# EAGLE library part DRV8825_BOARD (library bike_computer)
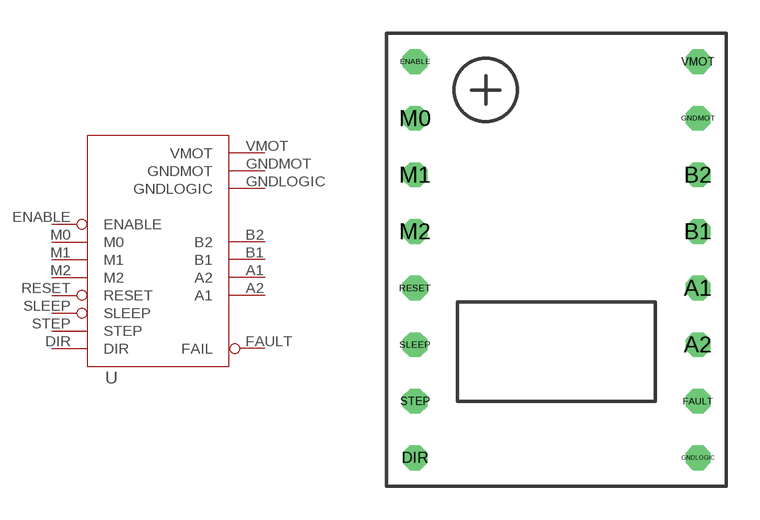
[diagram p0: symbol with the pads of DRV8255_BOARD; footprint DRV8255_BOARD]

Designator prefix -

## DRV8825_BOARD  [DRV8255_BOARD]
A1  A2  out
A2  A1  out
B1  B1  out
B2  B2  out
DIR  DIR
ENABLE  ENABLE
FAULT  FAIL  out
GNDLOGIC  GNDLOGIC
GNDMOT  GNDMOT
M0  M0  in
M1  M1
M2  M2
RESET  RESET
SLEEP  SLEEP
STEP  STEP
VMOT  VMOT

## Footprint DRV8255_BOARD (pad centres in mm)
drill 0.6 octagon: A1 6.35,-1.27; A2 6.35,-3.81; B1 6.35,1.27; B2 6.35,3.81; DIR -6.35,-8.89; ENABLE -6.35,8.89; FAULT 6.35,-6.35; GNDLOGIC 6.35,-8.89; GNDMOT 6.35,6.35; M0 -6.35,6.35; M1 -6.35,3.81; M2 -6.35,1.27; RESET -6.35,-1.27; SLEEP -6.35,-3.81; STEP -6.35,-6.35; VMOT 6.35,8.89